# EAGLE library part IC_SC806 (library 0kaz)
Miniature High Current Lithium-Ion Battery Charger (Semtech)
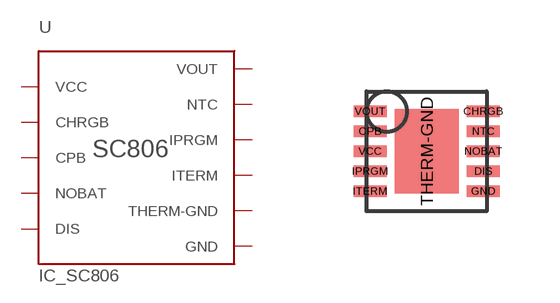
[diagram p1: symbol with the pads of MLP-10; footprint MLP-10]

Designator prefix -

## IC_SC806  [MLP-10]
CHRGB  CHRGB
CPB  CPB
DIS  DIS
GND  GND
IPRGM  IPRGM
ITERM  ITERM
NOBAT  NOBAT
NTC  NTC
THERM-GND  THERM-GND
VCC  VCC
VOUT  VOUT

## Footprint MLP-10 (pad centres in mm)
10-Lead MLP package by Semtech (MLPD-10)
smd 0.83 x 0.28: CHRGB 1.415,1; CPB -1.415,0.5; DIS 1.415,-0.5; GND 1.415,-1; IPRGM -1.415,-0.5; ITERM -1.415,-1; NOBAT 1.415,0; NTC 1.415,0.5; VCC -1.415,0; VOUT -1.415,1
smd 1.6 x 2.12: THERM-GND 0,0